# Altium schematic symbol library MAL219691204E3.SchLib: 1 symbol
Pins are listed as number, name and electrical type; pins without a type are passive.

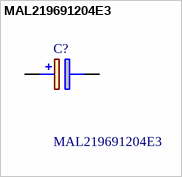
[diagram p0: symbol MAL219691204E3]

## MAL219691204E3
designator C?
Vishay 15F Supercapacitor EDLC -20  +80% Tolerance 196 HVC Series 5.6V dc Through Hole; Geometry.Height: 10mm; Manufacturer_Name: Vishay; Manufacturer_Part_Number: MAL219691204E3; Mouser Part Number: 594-MAL219691204E3; Mouser Price/Stock: https://www.mouser.co.uk/ProductDetail/Vishay-BC-Components/MAL219691204E3?qs=sO%2FZ8XQFeM1hIJSXx63Ctw%3D%3D; Arrow Part Number: MAL219691204E3; Arrow Price/Stock: https://www.arrow.com/en/products/mal219691204e3/vishay; Datasheet Link: https://www.vishay.com/docs/28409/196hvc.pdf
footprint MAL219691204E3
pins: 1 +, 2 -